# Altium integrated library Linear Technology Power Management Hot Swap Controllers.IntLib: 992 symbols (part 25 of 93)
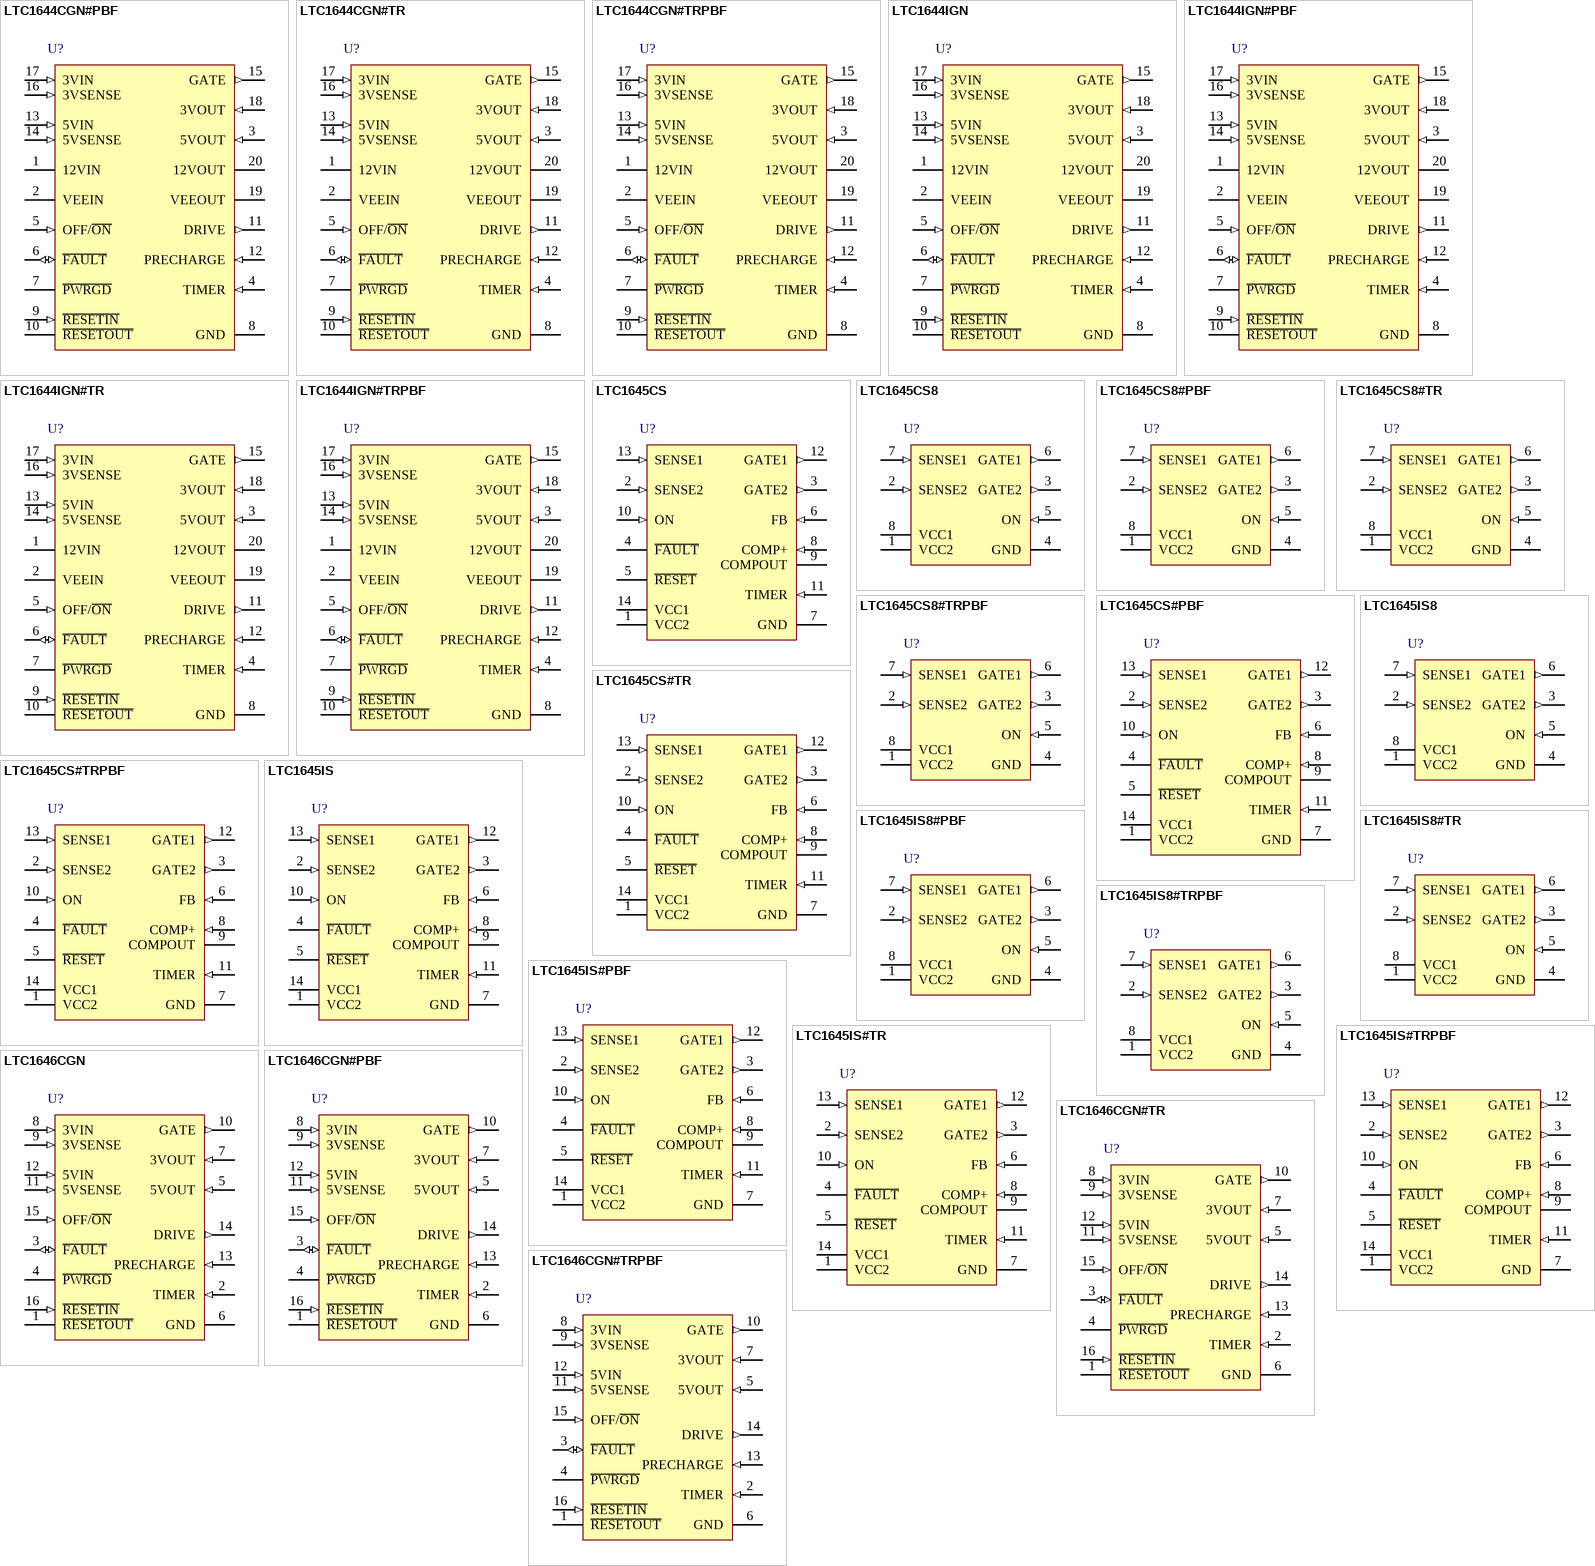
[diagram p61: symbols LTC1644CGN#PBF to LTC1646CGN#TRPBF]

## LTC1644CGN#TR
designator U?
CompactPCI Bus Hot Swap Controller, 3.3 V, 5 V, +/-12 V Vin, 20-pin SOP (GN-20), 0 to 70 degC, Tape and Reel; Manufacturer: Linear Technology; PartNumber: LTC1644CGN#TR; Active Limiting: yes; Circuit Breaker Accuracy(%): 27; Circuit Breaker Threshold: 55 mV; Circuit Breakers(#): 4; Extended Temp: C, I; Fast Comparator: no; In-Rush Current: Active; PackageVersion: Rev. B, 03/2012; PackageReference: GN-20; PackageDescription: 20-Pin Plastic SSOP, Body 8.649 x 3.899 mm, Pitch 0.635 mm; Supplier 1: Digi-Key; Supplier Part Number 1: LTC1644CGNTR-ND; Fault: yes; Foldback: yes; Packing: Tape and Reel; Power Good: yes; Reset: no; RoHS: FALSE; Vin Range: 3.3 V, 5 V, +/-12 V; Mounting Technology: Surface Mount; ComponentLink1Description: Manufacturer URL; ComponentLink1URL: http://www.linear.com/; ComponentLink2Description: Datasheet; ComponentLink2URL: http://cds.linear.com/docs/en/datasheet/1644f.pdf; ComponentLink3Description: Package Specification; ComponentLink3URL: http://cds.linear.com/docs/en/packaging/05081641_B_GN20.pdf
footprint LT-GN-20_N (SOP, 20-Leads, Body 8.7x4mm, Pitch 0.635mm, IPC Medium Density)
footprint LT-GN-20_L (SOP, 20-Leads, Body 8.7x4mm, Pitch 0.635mm, IPC High Density)
footprint LT-GN-20_M (SOP, 20-Leads, Body 8.7x4mm, Pitch 0.635mm, IPC Low Density)
pins: 1 12VIN (power) "12V Supply Input. A 0.5W switch is connected between 12VIN and 12VOUT with a foldback current limit. An undervoltage lockout circuit prevents the switches from turning on while the 12VIN pin voltage is less than 8.3V. 12VIN (See Datasheet)", 2 VEEIN (power) "-12V Supply Input. A 1W switch is connected between VEEIN and VEEOUT with a foldback current limit. If no VEE supply input is available, tie the VEEIN pin to the GND pin in order to disable the VEEOUT power good function.", 3 5VOUT (in) "5V Output Sense. The P\W\R\G\D\ pin will not pull low until the 5VOUT pin voltage exceeds 4.62V. If no 5V input supply is available, tie the 5VOUT pin to the 3VOUT pin in order to disable the 5VOUT power good function.", 4 TIMER (in) "Current Fault Inhibit Timing Input. Connect a capacitor from TIMER to GND. With the chip turned off (OFF/ON = HIGH), the TIMER pin is internally held at GND. When the chip is turned on, a 21mA pull-up current source is (See Datasheet)", 5 OFF/~{ON} (in) "Digital Input. Connect the CPCI BD_SEL# signal to the OFF/ON pin. When the OFF/O\N\ pin is pulled low, the GATE pin is pulled high by a 65mA current source and the internal 12V and -12V switches are turned on. When the (See Datasheet)", 6 ~{FAULT} (io) "Open-Drain Digital I/O. FAULT is pulled low when a current limit fault is detected. Current limit faults are ignored until the voltage at the TIMER pin is within 1V of 12VIN. Once the TIMER cycle is complete, FAULT will pull (See Datasheet)", 7 ~{PWRGD} (oc) "Open-Drain Digital Power Good Output. Connect the CPCI HEALTHY# signal to the PWRGD pin. PWRGD remains low while V12VOUT >= 11.1V, V3VOUT >= 2.9V, V5VOUT >=  4.62V and VEEOUT =< -10.5V. When any of the supplies falls below (See Datasheet)", 8 GND (power) "Chip Ground.", 9 ~{RESETIN} (in) "Digital Input. Connect the CPCI PCI_RST# signal to the RESETIN pin. Pulling RESETIN low will cause RESETOUT to pull low.", 10 ~{RESETOUT} (oc) "Open-Drain Digital Output. Connect the CPCI LOCAL_PCI_RST# signal to the RESETOUT pin. RESETOUT is the logical combination of RESETIN and PWRGD.", 11 DRIVE (out) "Precharge Base Drive Output. Provides base drive for an external NPN emitter-follower which in turn biases the PRECHARGE node.", 12 PRECHARGE (in) "Precharge Monitor Input. An onchip error amplifier servos the DRIVE pin voltage to keep the precharge node at 1V.", 13 5VIN (in) "5V Supply Sense Input. An undervoltage lockout circuit prevents the switches from turning on when the voltage at the 5VIN pin is less than 2.48V. If no 5V input supply is available, tie the 5VIN to the 3VIN pin.", 14 5VSENSE (in) "5V Current Limit Sense. With a sense resistor placed in the supply path between 5VIN and 5VSENSE, the GATE pin voltage will be adjusted to maintain a constant 51mV across the sense resistor and a constant current through the (See Datasheet)", 15 GATE (out) "High Side Gate Drive for the External 3.3V and 5V N-Channels pass transistors. Requires an external series RC network to compensate the current limit loop and set the minimum ramp-up rate.", 16 3VSENSE (in) "3.3V Current Limit Set. With a sense resistor placed in the supply path between 3VIN and 3VSENSE, the GATE pin voltage will be adjusted to maintain a constant 51mV across the sense resistor and a constant current through the (See Datasheet)", 17 3VIN (in) "3.3V Supply Sense Input. An undervoltage lockout circuit prevents the switches from turning on when the voltage at the 3VIN pin is less than 2.48V. If no 3.3V input supply is available, connect two series diodes between 5VIN (See Datasheet)", 18 3VOUT (in) "Analog Input used to monitor the 3.3V output supply voltage. The PWRGD pin cannot pull low until the 3VOUT pin voltage exceeds 2.9V. If no 3.3V input supply is available, tie the 3VOUT pin to the 5VOUT pin.", 19 VEEOUT (power) "-12V Supply Output. A 1W switch is connected between VEEIN and VEEOUT. VEEOUT must exceed -10.5V before the PWRGD pin pulls low unless the VEE PWRGD function is disabled by grounding the VEEIN pin.", 20 12VOUT (power) "12V Supply Output. A 0.5W switch is connected between 12VIN and 12VOUT. 12VOUT must exceed 11.1V before the PWRGD pin can pull low."

## LTC1644CGN#TRPBF
designator U?
CompactPCI Bus Hot Swap Controller, 3.3 V, 5 V, +/-12 V Vin, 20-pin SOP (GN-20), 0 to 70 degC, Pb-Free, Tape and Reel; Manufacturer: Linear Technology; PartNumber: LTC1644CGN#TRPBF; Active Limiting: yes; Circuit Breaker Accuracy(%): 27; Circuit Breaker Threshold: 55 mV; Circuit Breakers(#): 4; Extended Temp: C, I; Fast Comparator: no; In-Rush Current: Active; PackageVersion: Rev. B, 03/2012; PackageReference: GN-20; PackageDescription: 20-Pin Plastic SSOP, Body 8.649 x 3.899 mm, Pitch 0.635 mm; Supplier 1: Digi-Key; Supplier Part Number 1: LTC1644CGN#TRPBF-ND; Fault: yes; Foldback: yes; Packing: Tape and Reel; Power Good: yes; Reset: no; RoHS: TRUE; Vin Range: 3.3 V, 5 V, +/-12 V; Mounting Technology: Surface Mount; ComponentLink1Description: Manufacturer URL; ComponentLink1URL: http://www.linear.com/; ComponentLink2Description: Datasheet; ComponentLink2URL: http://cds.linear.com/docs/en/datasheet/1644f.pdf; ComponentLink3Description: Package Specification; ComponentLink3URL: http://cds.linear.com/docs/en/packaging/05081641_B_GN20.pdf
footprint LT-GN-20_N (SOP, 20-Leads, Body 8.7x4mm, Pitch 0.635mm, IPC Medium Density)
footprint LT-GN-20_L (SOP, 20-Leads, Body 8.7x4mm, Pitch 0.635mm, IPC High Density)
footprint LT-GN-20_M (SOP, 20-Leads, Body 8.7x4mm, Pitch 0.635mm, IPC Low Density)
pins: 1 12VIN (power) "12V Supply Input. A 0.5W switch is connected between 12VIN and 12VOUT with a foldback current limit. An undervoltage lockout circuit prevents the switches from turning on while the 12VIN pin voltage is less than 8.3V. 12VIN (See Datasheet)", 2 VEEIN (power) "-12V Supply Input. A 1W switch is connected between VEEIN and VEEOUT with a foldback current limit. If no VEE supply input is available, tie the VEEIN pin to the GND pin in order to disable the VEEOUT power good function.", 3 5VOUT (in) "5V Output Sense. The P\W\R\G\D\ pin will not pull low until the 5VOUT pin voltage exceeds 4.62V. If no 5V input supply is available, tie the 5VOUT pin to the 3VOUT pin in order to disable the 5VOUT power good function.", 4 TIMER (in) "Current Fault Inhibit Timing Input. Connect a capacitor from TIMER to GND. With the chip turned off (OFF/ON = HIGH), the TIMER pin is internally held at GND. When the chip is turned on, a 21mA pull-up current source is (See Datasheet)", 5 OFF/~{ON} (in) "Digital Input. Connect the CPCI BD_SEL# signal to the OFF/ON pin. When the OFF/O\N\ pin is pulled low, the GATE pin is pulled high by a 65mA current source and the internal 12V and -12V switches are turned on. When the (See Datasheet)", 6 ~{FAULT} (io) "Open-Drain Digital I/O. FAULT is pulled low when a current limit fault is detected. Current limit faults are ignored until the voltage at the TIMER pin is within 1V of 12VIN. Once the TIMER cycle is complete, FAULT will pull (See Datasheet)", 7 ~{PWRGD} (oc) "Open-Drain Digital Power Good Output. Connect the CPCI HEALTHY# signal to the PWRGD pin. PWRGD remains low while V12VOUT >= 11.1V, V3VOUT >= 2.9V, V5VOUT >=  4.62V and VEEOUT =< -10.5V. When any of the supplies falls below (See Datasheet)", 8 GND (power) "Chip Ground.", 9 ~{RESETIN} (in) "Digital Input. Connect the CPCI PCI_RST# signal to the RESETIN pin. Pulling RESETIN low will cause RESETOUT to pull low.", 10 ~{RESETOUT} (oc) "Open-Drain Digital Output. Connect the CPCI LOCAL_PCI_RST# signal to the RESETOUT pin. RESETOUT is the logical combination of RESETIN and PWRGD.", 11 DRIVE (out) "Precharge Base Drive Output. Provides base drive for an external NPN emitter-follower which in turn biases the PRECHARGE node.", 12 PRECHARGE (in) "Precharge Monitor Input. An onchip error amplifier servos the DRIVE pin voltage to keep the precharge node at 1V.", 13 5VIN (in) "5V Supply Sense Input. An undervoltage lockout circuit prevents the switches from turning on when the voltage at the 5VIN pin is less than 2.48V. If no 5V input supply is available, tie the 5VIN to the 3VIN pin.", 14 5VSENSE (in) "5V Current Limit Sense. With a sense resistor placed in the supply path between 5VIN and 5VSENSE, the GATE pin voltage will be adjusted to maintain a constant 51mV across the sense resistor and a constant current through the (See Datasheet)", 15 GATE (out) "High Side Gate Drive for the External 3.3V and 5V N-Channels pass transistors. Requires an external series RC network to compensate the current limit loop and set the minimum ramp-up rate.", 16 3VSENSE (in) "3.3V Current Limit Set. With a sense resistor placed in the supply path between 3VIN and 3VSENSE, the GATE pin voltage will be adjusted to maintain a constant 51mV across the sense resistor and a constant current through the (See Datasheet)", 17 3VIN (in) "3.3V Supply Sense Input. An undervoltage lockout circuit prevents the switches from turning on when the voltage at the 3VIN pin is less than 2.48V. If no 3.3V input supply is available, connect two series diodes between 5VIN (See Datasheet)", 18 3VOUT (in) "Analog Input used to monitor the 3.3V output supply voltage. The PWRGD pin cannot pull low until the 3VOUT pin voltage exceeds 2.9V. If no 3.3V input supply is available, tie the 3VOUT pin to the 5VOUT pin.", 19 VEEOUT (power) "-12V Supply Output. A 1W switch is connected between VEEIN and VEEOUT. VEEOUT must exceed -10.5V before the PWRGD pin pulls low unless the VEE PWRGD function is disabled by grounding the VEEIN pin.", 20 12VOUT (power) "12V Supply Output. A 0.5W switch is connected between 12VIN and 12VOUT. 12VOUT must exceed 11.1V before the PWRGD pin can pull low."

## LTC1644IGN
designator U?
CompactPCI Bus Hot Swap Controller, 3.3 V, 5 V, +/-12 V Vin, 20-pin SOP (GN-20), -40 to 85 degC; Manufacturer: Linear Technology; PartNumber: LTC1644IGN; Active Limiting: yes; Circuit Breaker Accuracy(%): 27; Circuit Breaker Threshold: 55 mV; Circuit Breakers(#): 4; Extended Temp: C, I; Fast Comparator: no; In-Rush Current: Active; PackageVersion: Rev. B, 03/2012; PackageReference: GN-20; PackageDescription: 20-Pin Plastic SSOP, Body 8.649 x 3.899 mm, Pitch 0.635 mm; Supplier 1: Digi-Key; Supplier Part Number 1: LTC1644IGN-ND; Fault: yes; Foldback: yes; Power Good: yes; Reset: no; RoHS: FALSE; Vin Range: 3.3 V, 5 V, +/-12 V; Mounting Technology: Surface Mount; ComponentLink1Description: Manufacturer URL; ComponentLink1URL: http://www.linear.com/; ComponentLink2Description: Datasheet; ComponentLink2URL: http://cds.linear.com/docs/en/datasheet/1644f.pdf; ComponentLink3Description: Package Specification; ComponentLink3URL: http://cds.linear.com/docs/en/packaging/05081641_B_GN20.pdf
footprint LT-GN-20_N (SOP, 20-Leads, Body 8.7x4mm, Pitch 0.635mm, IPC Medium Density)
footprint LT-GN-20_L (SOP, 20-Leads, Body 8.7x4mm, Pitch 0.635mm, IPC High Density)
footprint LT-GN-20_M (SOP, 20-Leads, Body 8.7x4mm, Pitch 0.635mm, IPC Low Density)
pins: 1 12VIN (power) "12V Supply Input. A 0.5W switch is connected between 12VIN and 12VOUT with a foldback current limit. An undervoltage lockout circuit prevents the switches from turning on while the 12VIN pin voltage is less than 8.3V. 12VIN (See Datasheet)", 2 VEEIN (power) "-12V Supply Input. A 1W switch is connected between VEEIN and VEEOUT with a foldback current limit. If no VEE supply input is available, tie the VEEIN pin to the GND pin in order to disable the VEEOUT power good function.", 3 5VOUT (in) "5V Output Sense. The P\W\R\G\D\ pin will not pull low until the 5VOUT pin voltage exceeds 4.62V. If no 5V input supply is available, tie the 5VOUT pin to the 3VOUT pin in order to disable the 5VOUT power good function.", 4 TIMER (in) "Current Fault Inhibit Timing Input. Connect a capacitor from TIMER to GND. With the chip turned off (OFF/ON = HIGH), the TIMER pin is internally held at GND. When the chip is turned on, a 21mA pull-up current source is (See Datasheet)", 5 OFF/~{ON} (in) "Digital Input. Connect the CPCI BD_SEL# signal to the OFF/ON pin. When the OFF/O\N\ pin is pulled low, the GATE pin is pulled high by a 65mA current source and the internal 12V and -12V switches are turned on. When the (See Datasheet)", 6 ~{FAULT} (io) "Open-Drain Digital I/O. FAULT is pulled low when a current limit fault is detected. Current limit faults are ignored until the voltage at the TIMER pin is within 1V of 12VIN. Once the TIMER cycle is complete, FAULT will pull (See Datasheet)", 7 ~{PWRGD} (oc) "Open-Drain Digital Power Good Output. Connect the CPCI HEALTHY# signal to the PWRGD pin. PWRGD remains low while V12VOUT >= 11.1V, V3VOUT >= 2.9V, V5VOUT >=  4.62V and VEEOUT =< -10.5V. When any of the supplies falls below (See Datasheet)", 8 GND (power) "Chip Ground.", 9 ~{RESETIN} (in) "Digital Input. Connect the CPCI PCI_RST# signal to the RESETIN pin. Pulling RESETIN low will cause RESETOUT to pull low.", 10 ~{RESETOUT} (oc) "Open-Drain Digital Output. Connect the CPCI LOCAL_PCI_RST# signal to the RESETOUT pin. RESETOUT is the logical combination of RESETIN and PWRGD.", 11 DRIVE (out) "Precharge Base Drive Output. Provides base drive for an external NPN emitter-follower which in turn biases the PRECHARGE node.", 12 PRECHARGE (in) "Precharge Monitor Input. An onchip error amplifier servos the DRIVE pin voltage to keep the precharge node at 1V.", 13 5VIN (in) "5V Supply Sense Input. An undervoltage lockout circuit prevents the switches from turning on when the voltage at the 5VIN pin is less than 2.48V. If no 5V input supply is available, tie the 5VIN to the 3VIN pin.", 14 5VSENSE (in) "5V Current Limit Sense. With a sense resistor placed in the supply path between 5VIN and 5VSENSE, the GATE pin voltage will be adjusted to maintain a constant 51mV across the sense resistor and a constant current through the (See Datasheet)", 15 GATE (out) "High Side Gate Drive for the External 3.3V and 5V N-Channels pass transistors. Requires an external series RC network to compensate the current limit loop and set the minimum ramp-up rate.", 16 3VSENSE (in) "3.3V Current Limit Set. With a sense resistor placed in the supply path between 3VIN and 3VSENSE, the GATE pin voltage will be adjusted to maintain a constant 51mV across the sense resistor and a constant current through the (See Datasheet)", 17 3VIN (in) "3.3V Supply Sense Input. An undervoltage lockout circuit prevents the switches from turning on when the voltage at the 3VIN pin is less than 2.48V. If no 3.3V input supply is available, connect two series diodes between 5VIN (See Datasheet)", 18 3VOUT (in) "Analog Input used to monitor the 3.3V output supply voltage. The PWRGD pin cannot pull low until the 3VOUT pin voltage exceeds 2.9V. If no 3.3V input supply is available, tie the 3VOUT pin to the 5VOUT pin.", 19 VEEOUT (power) "-12V Supply Output. A 1W switch is connected between VEEIN and VEEOUT. VEEOUT must exceed -10.5V before the PWRGD pin pulls low unless the VEE PWRGD function is disabled by grounding the VEEIN pin.", 20 12VOUT (power) "12V Supply Output. A 0.5W switch is connected between 12VIN and 12VOUT. 12VOUT must exceed 11.1V before the PWRGD pin can pull low."

## LTC1644IGN#PBF
designator U?
CompactPCI Bus Hot Swap Controller, 3.3 V, 5 V, +/-12 V Vin, 20-pin SOP (GN-20), -40 to 85 degC, Pb-Free; Manufacturer: Linear Technology; PartNumber: LTC1644IGN#PBF; Active Limiting: yes; Circuit Breaker Accuracy(%): 27; Circuit Breaker Threshold: 55 mV; Circuit Breakers(#): 4; Extended Temp: C, I; Fast Comparator: no; In-Rush Current: Active; PackageVersion: Rev. B, 03/2012; PackageReference: GN-20; PackageDescription: 20-Pin Plastic SSOP, Body 8.649 x 3.899 mm, Pitch 0.635 mm; Supplier 1: Digi-Key; Supplier Part Number 1: LTC1644IGN#PBF-ND; Fault: yes; Foldback: yes; Power Good: yes; Reset: no; RoHS: TRUE; Vin Range: 3.3 V, 5 V, +/-12 V; Mounting Technology: Surface Mount; ComponentLink1Description: Manufacturer URL; ComponentLink1URL: http://www.linear.com/; ComponentLink2Description: Datasheet; ComponentLink2URL: http://cds.linear.com/docs/en/datasheet/1644f.pdf; ComponentLink3Description: Package Specification; ComponentLink3URL: http://cds.linear.com/docs/en/packaging/05081641_B_GN20.pdf
footprint LT-GN-20_N (SOP, 20-Leads, Body 8.7x4mm, Pitch 0.635mm, IPC Medium Density)
footprint LT-GN-20_L (SOP, 20-Leads, Body 8.7x4mm, Pitch 0.635mm, IPC High Density)
footprint LT-GN-20_M (SOP, 20-Leads, Body 8.7x4mm, Pitch 0.635mm, IPC Low Density)
pins: 1 12VIN (power) "12V Supply Input. A 0.5W switch is connected between 12VIN and 12VOUT with a foldback current limit. An undervoltage lockout circuit prevents the switches from turning on while the 12VIN pin voltage is less than 8.3V. 12VIN (See Datasheet)", 2 VEEIN (power) "-12V Supply Input. A 1W switch is connected between VEEIN and VEEOUT with a foldback current limit. If no VEE supply input is available, tie the VEEIN pin to the GND pin in order to disable the VEEOUT power good function.", 3 5VOUT (in) "5V Output Sense. The P\W\R\G\D\ pin will not pull low until the 5VOUT pin voltage exceeds 4.62V. If no 5V input supply is available, tie the 5VOUT pin to the 3VOUT pin in order to disable the 5VOUT power good function.", 4 TIMER (in) "Current Fault Inhibit Timing Input. Connect a capacitor from TIMER to GND. With the chip turned off (OFF/ON = HIGH), the TIMER pin is internally held at GND. When the chip is turned on, a 21mA pull-up current source is (See Datasheet)", 5 OFF/~{ON} (in) "Digital Input. Connect the CPCI BD_SEL# signal to the OFF/ON pin. When the OFF/O\N\ pin is pulled low, the GATE pin is pulled high by a 65mA current source and the internal 12V and -12V switches are turned on. When the (See Datasheet)", 6 ~{FAULT} (io) "Open-Drain Digital I/O. FAULT is pulled low when a current limit fault is detected. Current limit faults are ignored until the voltage at the TIMER pin is within 1V of 12VIN. Once the TIMER cycle is complete, FAULT will pull (See Datasheet)", 7 ~{PWRGD} (oc) "Open-Drain Digital Power Good Output. Connect the CPCI HEALTHY# signal to the PWRGD pin. PWRGD remains low while V12VOUT >= 11.1V, V3VOUT >= 2.9V, V5VOUT >=  4.62V and VEEOUT =< -10.5V. When any of the supplies falls below (See Datasheet)", 8 GND (power) "Chip Ground.", 9 ~{RESETIN} (in) "Digital Input. Connect the CPCI PCI_RST# signal to the RESETIN pin. Pulling RESETIN low will cause RESETOUT to pull low.", 10 ~{RESETOUT} (oc) "Open-Drain Digital Output. Connect the CPCI LOCAL_PCI_RST# signal to the RESETOUT pin. RESETOUT is the logical combination of RESETIN and PWRGD.", 11 DRIVE (out) "Precharge Base Drive Output. Provides base drive for an external NPN emitter-follower which in turn biases the PRECHARGE node.", 12 PRECHARGE (in) "Precharge Monitor Input. An onchip error amplifier servos the DRIVE pin voltage to keep the precharge node at 1V.", 13 5VIN (in) "5V Supply Sense Input. An undervoltage lockout circuit prevents the switches from turning on when the voltage at the 5VIN pin is less than 2.48V. If no 5V input supply is available, tie the 5VIN to the 3VIN pin.", 14 5VSENSE (in) "5V Current Limit Sense. With a sense resistor placed in the supply path between 5VIN and 5VSENSE, the GATE pin voltage will be adjusted to maintain a constant 51mV across the sense resistor and a constant current through the (See Datasheet)", 15 GATE (out) "High Side Gate Drive for the External 3.3V and 5V N-Channels pass transistors. Requires an external series RC network to compensate the current limit loop and set the minimum ramp-up rate.", 16 3VSENSE (in) "3.3V Current Limit Set. With a sense resistor placed in the supply path between 3VIN and 3VSENSE, the GATE pin voltage will be adjusted to maintain a constant 51mV across the sense resistor and a constant current through the (See Datasheet)", 17 3VIN (in) "3.3V Supply Sense Input. An undervoltage lockout circuit prevents the switches from turning on when the voltage at the 3VIN pin is less than 2.48V. If no 3.3V input supply is available, connect two series diodes between 5VIN (See Datasheet)", 18 3VOUT (in) "Analog Input used to monitor the 3.3V output supply voltage. The PWRGD pin cannot pull low until the 3VOUT pin voltage exceeds 2.9V. If no 3.3V input supply is available, tie the 3VOUT pin to the 5VOUT pin.", 19 VEEOUT (power) "-12V Supply Output. A 1W switch is connected between VEEIN and VEEOUT. VEEOUT must exceed -10.5V before the PWRGD pin pulls low unless the VEE PWRGD function is disabled by grounding the VEEIN pin.", 20 12VOUT (power) "12V Supply Output. A 0.5W switch is connected between 12VIN and 12VOUT. 12VOUT must exceed 11.1V before the PWRGD pin can pull low."

## LTC1644IGN#TR
designator U?
CompactPCI Bus Hot Swap Controller, 3.3 V, 5 V, +/-12 V Vin, 20-pin SOP (GN-20), -40 to 85 degC, Tape and Reel; Manufacturer: Linear Technology; PartNumber: LTC1644IGN#TR; Active Limiting: yes; Circuit Breaker Accuracy(%): 27; Circuit Breaker Threshold: 55 mV; Circuit Breakers(#): 4; Extended Temp: C, I; Fast Comparator: no; In-Rush Current: Active; PackageVersion: Rev. B, 03/2012; PackageReference: GN-20; PackageDescription: 20-Pin Plastic SSOP, Body 8.649 x 3.899 mm, Pitch 0.635 mm; Supplier 1: Digi-Key; Supplier Part Number 1: LTC1644IGNTR-ND; Fault: yes; Foldback: yes; Packing: Tape and Reel; Power Good: yes; Reset: no; RoHS: FALSE; Vin Range: 3.3 V, 5 V, +/-12 V; Mounting Technology: Surface Mount; ComponentLink1Description: Manufacturer URL; ComponentLink1URL: http://www.linear.com/; ComponentLink2Description: Datasheet; ComponentLink2URL: http://cds.linear.com/docs/en/datasheet/1644f.pdf; ComponentLink3Description: Package Specification; ComponentLink3URL: http://cds.linear.com/docs/en/packaging/05081641_B_GN20.pdf
footprint LT-GN-20_N (SOP, 20-Leads, Body 8.7x4mm, Pitch 0.635mm, IPC Medium Density)
footprint LT-GN-20_L (SOP, 20-Leads, Body 8.7x4mm, Pitch 0.635mm, IPC High Density)
footprint LT-GN-20_M (SOP, 20-Leads, Body 8.7x4mm, Pitch 0.635mm, IPC Low Density)
pins: 1 12VIN (power) "12V Supply Input. A 0.5W switch is connected between 12VIN and 12VOUT with a foldback current limit. An undervoltage lockout circuit prevents the switches from turning on while the 12VIN pin voltage is less than 8.3V. 12VIN (See Datasheet)", 2 VEEIN (power) "-12V Supply Input. A 1W switch is connected between VEEIN and VEEOUT with a foldback current limit. If no VEE supply input is available, tie the VEEIN pin to the GND pin in order to disable the VEEOUT power good function.", 3 5VOUT (in) "5V Output Sense. The P\W\R\G\D\ pin will not pull low until the 5VOUT pin voltage exceeds 4.62V. If no 5V input supply is available, tie the 5VOUT pin to the 3VOUT pin in order to disable the 5VOUT power good function.", 4 TIMER (in) "Current Fault Inhibit Timing Input. Connect a capacitor from TIMER to GND. With the chip turned off (OFF/ON = HIGH), the TIMER pin is internally held at GND. When the chip is turned on, a 21mA pull-up current source is (See Datasheet)", 5 OFF/~{ON} (in) "Digital Input. Connect the CPCI BD_SEL# signal to the OFF/ON pin. When the OFF/O\N\ pin is pulled low, the GATE pin is pulled high by a 65mA current source and the internal 12V and -12V switches are turned on. When the (See Datasheet)", 6 ~{FAULT} (io) "Open-Drain Digital I/O. FAULT is pulled low when a current limit fault is detected. Current limit faults are ignored until the voltage at the TIMER pin is within 1V of 12VIN. Once the TIMER cycle is complete, FAULT will pull (See Datasheet)", 7 ~{PWRGD} (oc) "Open-Drain Digital Power Good Output. Connect the CPCI HEALTHY# signal to the PWRGD pin. PWRGD remains low while V12VOUT >= 11.1V, V3VOUT >= 2.9V, V5VOUT >=  4.62V and VEEOUT =< -10.5V. When any of the supplies falls below (See Datasheet)", 8 GND (power) "Chip Ground.", 9 ~{RESETIN} (in) "Digital Input. Connect the CPCI PCI_RST# signal to the RESETIN pin. Pulling RESETIN low will cause RESETOUT to pull low.", 10 ~{RESETOUT} (oc) "Open-Drain Digital Output. Connect the CPCI LOCAL_PCI_RST# signal to the RESETOUT pin. RESETOUT is the logical combination of RESETIN and PWRGD.", 11 DRIVE (out) "Precharge Base Drive Output. Provides base drive for an external NPN emitter-follower which in turn biases the PRECHARGE node.", 12 PRECHARGE (in) "Precharge Monitor Input. An onchip error amplifier servos the DRIVE pin voltage to keep the precharge node at 1V.", 13 5VIN (in) "5V Supply Sense Input. An undervoltage lockout circuit prevents the switches from turning on when the voltage at the 5VIN pin is less than 2.48V. If no 5V input supply is available, tie the 5VIN to the 3VIN pin.", 14 5VSENSE (in) "5V Current Limit Sense. With a sense resistor placed in the supply path between 5VIN and 5VSENSE, the GATE pin voltage will be adjusted to maintain a constant 51mV across the sense resistor and a constant current through the (See Datasheet)", 15 GATE (out) "High Side Gate Drive for the External 3.3V and 5V N-Channels pass transistors. Requires an external series RC network to compensate the current limit loop and set the minimum ramp-up rate.", 16 3VSENSE (in) "3.3V Current Limit Set. With a sense resistor placed in the supply path between 3VIN and 3VSENSE, the GATE pin voltage will be adjusted to maintain a constant 51mV across the sense resistor and a constant current through the (See Datasheet)", 17 3VIN (in) "3.3V Supply Sense Input. An undervoltage lockout circuit prevents the switches from turning on when the voltage at the 3VIN pin is less than 2.48V. If no 3.3V input supply is available, connect two series diodes between 5VIN (See Datasheet)", 18 3VOUT (in) "Analog Input used to monitor the 3.3V output supply voltage. The PWRGD pin cannot pull low until the 3VOUT pin voltage exceeds 2.9V. If no 3.3V input supply is available, tie the 3VOUT pin to the 5VOUT pin.", 19 VEEOUT (power) "-12V Supply Output. A 1W switch is connected between VEEIN and VEEOUT. VEEOUT must exceed -10.5V before the PWRGD pin pulls low unless the VEE PWRGD function is disabled by grounding the VEEIN pin.", 20 12VOUT (power) "12V Supply Output. A 0.5W switch is connected between 12VIN and 12VOUT. 12VOUT must exceed 11.1V before the PWRGD pin can pull low."

## LTC1644IGN#TRPBF
designator U?
CompactPCI Bus Hot Swap Controller, 3.3 V, 5 V, +/-12 V Vin, 20-pin SOP (GN-20), -40 to 85 degC, Pb-Free, Tape and Reel; Manufacturer: Linear Technology; PartNumber: LTC1644IGN#TRPBF; Active Limiting: yes; Circuit Breaker Accuracy(%): 27; Circuit Breaker Threshold: 55 mV; Circuit Breakers(#): 4; Extended Temp: C, I; Fast Comparator: no; In-Rush Current: Active; PackageVersion: Rev. B, 03/2012; PackageReference: GN-20; PackageDescription: 20-Pin Plastic SSOP, Body 8.649 x 3.899 mm, Pitch 0.635 mm; Supplier 1: Digi-Key; Supplier Part Number 1: LTC1644IGN#TRPBF-ND; Fault: yes; Foldback: yes; Packing: Tape and Reel; Power Good: yes; Reset: no; RoHS: TRUE; Vin Range: 3.3 V, 5 V, +/-12 V; Mounting Technology: Surface Mount; ComponentLink1Description: Manufacturer URL; ComponentLink1URL: http://www.linear.com/; ComponentLink2Description: Datasheet; ComponentLink2URL: http://cds.linear.com/docs/en/datasheet/1644f.pdf; ComponentLink3Description: Package Specification; ComponentLink3URL: http://cds.linear.com/docs/en/packaging/05081641_B_GN20.pdf
footprint LT-GN-20_N (SOP, 20-Leads, Body 8.7x4mm, Pitch 0.635mm, IPC Medium Density)
footprint LT-GN-20_L (SOP, 20-Leads, Body 8.7x4mm, Pitch 0.635mm, IPC High Density)
footprint LT-GN-20_M (SOP, 20-Leads, Body 8.7x4mm, Pitch 0.635mm, IPC Low Density)
pins: 1 12VIN (power) "12V Supply Input. A 0.5W switch is connected between 12VIN and 12VOUT with a foldback current limit. An undervoltage lockout circuit prevents the switches from turning on while the 12VIN pin voltage is less than 8.3V. 12VIN (See Datasheet)", 2 VEEIN (power) "-12V Supply Input. A 1W switch is connected between VEEIN and VEEOUT with a foldback current limit. If no VEE supply input is available, tie the VEEIN pin to the GND pin in order to disable the VEEOUT power good function.", 3 5VOUT (in) "5V Output Sense. The P\W\R\G\D\ pin will not pull low until the 5VOUT pin voltage exceeds 4.62V. If no 5V input supply is available, tie the 5VOUT pin to the 3VOUT pin in order to disable the 5VOUT power good function.", 4 TIMER (in) "Current Fault Inhibit Timing Input. Connect a capacitor from TIMER to GND. With the chip turned off (OFF/ON = HIGH), the TIMER pin is internally held at GND. When the chip is turned on, a 21mA pull-up current source is (See Datasheet)", 5 OFF/~{ON} (in) "Digital Input. Connect the CPCI BD_SEL# signal to the OFF/ON pin. When the OFF/O\N\ pin is pulled low, the GATE pin is pulled high by a 65mA current source and the internal 12V and -12V switches are turned on. When the (See Datasheet)", 6 ~{FAULT} (io) "Open-Drain Digital I/O. FAULT is pulled low when a current limit fault is detected. Current limit faults are ignored until the voltage at the TIMER pin is within 1V of 12VIN. Once the TIMER cycle is complete, FAULT will pull (See Datasheet)", 7 ~{PWRGD} (oc) "Open-Drain Digital Power Good Output. Connect the CPCI HEALTHY# signal to the PWRGD pin. PWRGD remains low while V12VOUT >= 11.1V, V3VOUT >= 2.9V, V5VOUT >=  4.62V and VEEOUT =< -10.5V. When any of the supplies falls below (See Datasheet)", 8 GND (power) "Chip Ground.", 9 ~{RESETIN} (in) "Digital Input. Connect the CPCI PCI_RST# signal to the RESETIN pin. Pulling RESETIN low will cause RESETOUT to pull low.", 10 ~{RESETOUT} (oc) "Open-Drain Digital Output. Connect the CPCI LOCAL_PCI_RST# signal to the RESETOUT pin. RESETOUT is the logical combination of RESETIN and PWRGD.", 11 DRIVE (out) "Precharge Base Drive Output. Provides base drive for an external NPN emitter-follower which in turn biases the PRECHARGE node.", 12 PRECHARGE (in) "Precharge Monitor Input. An onchip error amplifier servos the DRIVE pin voltage to keep the precharge node at 1V.", 13 5VIN (in) "5V Supply Sense Input. An undervoltage lockout circuit prevents the switches from turning on when the voltage at the 5VIN pin is less than 2.48V. If no 5V input supply is available, tie the 5VIN to the 3VIN pin.", 14 5VSENSE (in) "5V Current Limit Sense. With a sense resistor placed in the supply path between 5VIN and 5VSENSE, the GATE pin voltage will be adjusted to maintain a constant 51mV across the sense resistor and a constant current through the (See Datasheet)", 15 GATE (out) "High Side Gate Drive for the External 3.3V and 5V N-Channels pass transistors. Requires an external series RC network to compensate the current limit loop and set the minimum ramp-up rate.", 16 3VSENSE (in) "3.3V Current Limit Set. With a sense resistor placed in the supply path between 3VIN and 3VSENSE, the GATE pin voltage will be adjusted to maintain a constant 51mV across the sense resistor and a constant current through the (See Datasheet)", 17 3VIN (in) "3.3V Supply Sense Input. An undervoltage lockout circuit prevents the switches from turning on when the voltage at the 3VIN pin is less than 2.48V. If no 3.3V input supply is available, connect two series diodes between 5VIN (See Datasheet)", 18 3VOUT (in) "Analog Input used to monitor the 3.3V output supply voltage. The PWRGD pin cannot pull low until the 3VOUT pin voltage exceeds 2.9V. If no 3.3V input supply is available, tie the 3VOUT pin to the 5VOUT pin.", 19 VEEOUT (power) "-12V Supply Output. A 1W switch is connected between VEEIN and VEEOUT. VEEOUT must exceed -10.5V before the PWRGD pin pulls low unless the VEE PWRGD function is disabled by grounding the VEEIN pin.", 20 12VOUT (power) "12V Supply Output. A 0.5W switch is connected between 12VIN and 12VOUT. 12VOUT must exceed 11.1V before the PWRGD pin can pull low."

## LTC1645CS
designator U?
Dual-Channel Hot Swap Controller / Power Sequencer, 1.18 to 13.2 V, 2.3 to 13.2 V Vin, 14-pin SOIC (S-14), 0 to 70 degC; Manufacturer: Linear Technology; PartNumber: LTC1645CS; Active Limiting: no; Circuit Breaker Accuracy(%): 12; Circuit Breaker Threshold: 50 mV; Circuit Breakers(#): 2; Extended Temp: C, I; In-Rush Current: Ramp; Reset: yes; DatasheetVersion: Rev. A; PackageVersion: Rev. G, 03/2012; PackageReference: S-14; PackageDescription: 14-Pin Plastic Small Outline, Body 8.65 x 3.9 mm, Pitch 1.27 mm; Supplier 1: Digi-Key; Supplier Part Number 1: LTC1645CS-ND; Fast Comparator: no; Fault: no; Foldback: no; Power Good: no; RoHS: FALSE; Vin Range: 1.18 to 13.2 V, 2.3 to 13.2 V; Mounting Technology: Surface Mount; ComponentLink1Description: Manufacturer URL; ComponentLink1URL: http://www.linear.com/; ComponentLink2Description: Datasheet; ComponentLink2URL: http://cds.linear.com/docs/en/datasheet/1645fa.pdf; ComponentLink3Description: Package Specification; ComponentLink3URL: http://cds.linear.com/docs/en/packaging/05081610_G_S14.pdf
footprint LT-S-14_N (SOIC, 14-Leads, Body 8.7x4mm, Pitch 1.27mm, IPC Medium Density)
footprint LT-S-14_L (SOIC, 14-Leads, Body 8.7x4mm, Pitch 1.27mm, IPC High Density)
footprint LT-S-14_M (SOIC, 14-Leads, Body 8.7x4mm, Pitch 1.27mm, IPC Low Density)
pins: 1 VCC2 (power) "Positive Supply Input. VCC2 can range from 1.2V to 12V for normal operation. ICC2 is typically 0.2mA. An undervoltage lockout circuit disables the LTC1645 whenever the voltage at VCC2 is less than 1.12V.", 2 SENSE2 (in) "VCC2 Circuit Breaker Set Pin. With a sense resistor placed in the supply path between VCC2 and SENSE2, the circuit breaker trips when the voltage across the resistor exceeds 50mV for more than 1.5ms. If the circuit breaker (See Datasheet)", 3 GATE2 (out) "Channel 2 High Side Gate Drive. Connect to the gate of an external N-channel MOSFET. An internal charge pump guarantees at least 4.5V of gate drive. The charge pump is powered by the higher of VCC1 and VCC2. When the ON pin (See Datasheet)", 4 ~{FAULT} (oc) "Circuit Breaker Fault. F\A\U\L\T\ is an open-drain output that pulls low when the circuit breaker function trips. The circuit breaker is reset by pulling the ON pin below 0.4V. An external pull-up is required to generate a (See Datasheet)", 5 ~{RESET} (oc) "Open-Drain R\E\S\E\T\ Output. The R\E\S\E\T\ pin is pulled low when the voltage at the FB pin goes below 1.238V or VCC1 is below the undervoltage lockout threshold. The R\E\S\E\T\ pin goes high one timing cycle after the (See Datasheet)", 6 FB (in) "R\E\S\E\T\ Comparator Input. The FB pin is used to monitor the output supply voltage with an external resistive divider. When the voltage on the FB pin is lower than 1.238V, the R\E\S\E\T\ pin is pulled low. A glitch filter (See Datasheet)", 7 GND (power) "Ground. Connect to a ground plane for optimum performance.", 8 COMP+ (in) "Spare Comparator Noninverting Input. When the voltage on COMP+ is lower than 1.238V, COMPOUT pulls low.", 9 COMPOUT (oc) "Open-Drain Spare Comparator Output. COMPOUT pulls low when the voltage on COMP+ is below 1.238V or VCC1 is below the undervoltage lockout threshold. An external pull-up is required to generate a logic high at the COMPOUT pin.", 10 ON (in) "Analog Control Input. If the ON pin voltage is below 0.4V, both GATE1 and GATE2 are immediately pulled to ground. While the voltage is between 0.4V and 0.8V, both GATE1 and GATE2 are each pulled to ground with a 40mA current (See Datasheet)", 11 TIMER (in) "System Timing Pin. The TIMER pin requires an external capacitor to ground to generate a timing delay. The pin is used to set the delay before the R\E\S\E\T\ pin goes high after the output supply voltage is good as sensed by (See Datasheet)", 12 GATE1 (out) "Channel 1 High Side Gate Drive. Connect to the gate of an external N-channel MOSFET. An internal charge pump guarantees at least 4.5V of gate drive. The charge pump is powered by the higher of VCC1 and VCC2. When the ON pin (See Datasheet)", 13 SENSE1 (in) "VCC1 Circuit Breaker Set Pin. With a sense resistor placed in the supply path between VCC1 and SENSE1, the circuit breaker trips when the voltage across the resistor exceeds 50mV for more than 1.5ms. If the circuit breaker (See Datasheet)", 14 VCC1 (power) "Positive Supply Input. VCC1 can range from 2.375V to 12V for normal operation. ICC1 is typically 1mA. An undervoltage lockout circuit disables the chip whenever the voltage at VCC1 is less than 2.23V. All internal logic is (See Datasheet)"

## LTC1645CS8
designator U?
Dual-Channel Hot Swap Controller / Power Sequencer, 1.18 to 13.2 V, 2.3 to 13.2 V Vin, 8-pin SOIC (S8-8), 0 to 70 degC; Manufacturer: Linear Technology; PartNumber: LTC1645CS8; Active Limiting: no; Circuit Breaker Accuracy(%): 12; Circuit Breaker Threshold: 50 mV; Circuit Breakers(#): 2; Extended Temp: C, I; In-Rush Current: Ramp; Reset: yes; DatasheetVersion: Rev. A; PackageVersion: Rev. G, 03/2012; PackageReference: S8-8; PackageDescription: 8-Pin Plastic Small Outline (Narrow .150 Inch), Body 4.9 x 3.9 mm, Pitch 1.27 mm; Supplier 1: Digi-Key; Supplier Part Number 1: LTC1645CS8-ND; Fast Comparator: no; Fault: no; Foldback: no; Power Good: no; RoHS: FALSE; Vin Range: 1.18 to 13.2 V, 2.3 to 13.2 V; Mounting Technology: Surface Mount; ComponentLink1Description: Manufacturer URL; ComponentLink1URL: http://www.linear.com/; ComponentLink2Description: Datasheet; ComponentLink2URL: http://cds.linear.com/docs/en/datasheet/1645fa.pdf; ComponentLink3Description: Package Specification; ComponentLink3URL: http://cds.linear.com/docs/en/packaging/05081610_G_SO8.pdf
footprint LT-S8-8_N (SOIC, 8-Leads, Body 5x4mm, Pitch 1.27mm, IPC Medium Density)
footprint LT-S8-8_L (SOIC, 8-Leads, Body 5x4mm, Pitch 1.27mm, IPC High Density)
footprint LT-S8-8_M (SOIC, 8-Leads, Body 5x4mm, Pitch 1.27mm, IPC Low Density)
pins: 1 VCC2 (power) "Positive Supply Input.", 2 SENSE2 (in) "VCC2 Circuit Breaker Set Pin.", 3 GATE2 (out) "Channel 2 High Side Gate Drive. Connect to the gate of an external N-channel MOSFET.", 4 GND (power) "Ground. Connect to a ground plane for optimum performance.", 5 ON (in) "Analog Control Input.", 6 GATE1 (out) "Channel 1 High Side Gate Drive. Connect to the gate of an external N-channel MOSFET.", 7 SENSE1 (in) "VCC1 Circuit Breaker Set Pin.", 8 VCC1 (power) "Positive Supply Input."

## LTC1645CS8#PBF
designator U?
Dual-Channel Hot Swap Controller / Power Sequencer, 1.18 to 13.2 V, 2.3 to 13.2 V Vin, 8-pin SOIC (S8-8), 0 to 70 degC, Pb-Free; Manufacturer: Linear Technology; PartNumber: LTC1645CS8#PBF; Active Limiting: no; Circuit Breaker Accuracy(%): 12; Circuit Breaker Threshold: 50 mV; Circuit Breakers(#): 2; Extended Temp: C, I; In-Rush Current: Ramp; Reset: yes; DatasheetVersion: Rev. A; PackageVersion: Rev. G, 03/2012; PackageReference: S8-8; PackageDescription: 8-Pin Plastic Small Outline (Narrow .150 Inch), Body 4.9 x 3.9 mm, Pitch 1.27 mm; Supplier 1: Digi-Key; Supplier Part Number 1: LTC1645CS8#PBF-ND; Supplier 2: Farnell; Supplier Part Number 2: 1273897; Fast Comparator: no; Fault: no; Foldback: no; Power Good: no; RoHS: TRUE; Vin Range: 1.18 to 13.2 V, 2.3 to 13.2 V; Mounting Technology: Surface Mount; ComponentLink1Description: Manufacturer URL; ComponentLink1URL: http://www.linear.com/; ComponentLink2Description: Datasheet; ComponentLink2URL: http://cds.linear.com/docs/en/datasheet/1645fa.pdf; ComponentLink3Description: Package Specification; ComponentLink3URL: http://cds.linear.com/docs/en/packaging/05081610_G_SO8.pdf
footprint LT-S8-8_N (SOIC, 8-Leads, Body 5x4mm, Pitch 1.27mm, IPC Medium Density)
footprint LT-S8-8_L (SOIC, 8-Leads, Body 5x4mm, Pitch 1.27mm, IPC High Density)
footprint LT-S8-8_M (SOIC, 8-Leads, Body 5x4mm, Pitch 1.27mm, IPC Low Density)
pins: 1 VCC2 (power) "Positive Supply Input.", 2 SENSE2 (in) "VCC2 Circuit Breaker Set Pin.", 3 GATE2 (out) "Channel 2 High Side Gate Drive. Connect to the gate of an external N-channel MOSFET.", 4 GND (power) "Ground. Connect to a ground plane for optimum performance.", 5 ON (in) "Analog Control Input.", 6 GATE1 (out) "Channel 1 High Side Gate Drive. Connect to the gate of an external N-channel MOSFET.", 7 SENSE1 (in) "VCC1 Circuit Breaker Set Pin.", 8 VCC1 (power) "Positive Supply Input."

## LTC1645CS8#TR
designator U?
Dual-Channel Hot Swap Controller / Power Sequencer, 1.18 to 13.2 V, 2.3 to 13.2 V Vin, 8-pin SOIC (S8-8), 0 to 70 degC, Tape and Reel; Manufacturer: Linear Technology; PartNumber: LTC1645CS8#TR; Active Limiting: no; Circuit Breaker Accuracy(%): 12; Circuit Breaker Threshold: 50 mV; Circuit Breakers(#): 2; Extended Temp: C, I; In-Rush Current: Ramp; Reset: yes; DatasheetVersion: Rev. A; PackageVersion: Rev. G, 03/2012; PackageReference: S8-8; PackageDescription: 8-Pin Plastic Small Outline (Narrow .150 Inch), Body 4.9 x 3.9 mm, Pitch 1.27 mm; Supplier 1: Digi-Key; Supplier Part Number 1: LTC1645CS8#TR-ND; Fast Comparator: no; Fault: no; Foldback: no; Packing: Tape and Reel; Power Good: no; RoHS: FALSE; Vin Range: 1.18 to 13.2 V, 2.3 to 13.2 V; Mounting Technology: Surface Mount; ComponentLink1Description: Manufacturer URL; ComponentLink1URL: http://www.linear.com/; ComponentLink2Description: Datasheet; ComponentLink2URL: http://cds.linear.com/docs/en/datasheet/1645fa.pdf; ComponentLink3Description: Package Specification; ComponentLink3URL: http://cds.linear.com/docs/en/packaging/05081610_G_SO8.pdf
footprint LT-S8-8_N (SOIC, 8-Leads, Body 5x4mm, Pitch 1.27mm, IPC Medium Density)
footprint LT-S8-8_L (SOIC, 8-Leads, Body 5x4mm, Pitch 1.27mm, IPC High Density)
footprint LT-S8-8_M (SOIC, 8-Leads, Body 5x4mm, Pitch 1.27mm, IPC Low Density)
pins: 1 VCC2 (power) "Positive Supply Input.", 2 SENSE2 (in) "VCC2 Circuit Breaker Set Pin.", 3 GATE2 (out) "Channel 2 High Side Gate Drive. Connect to the gate of an external N-channel MOSFET.", 4 GND (power) "Ground. Connect to a ground plane for optimum performance.", 5 ON (in) "Analog Control Input.", 6 GATE1 (out) "Channel 1 High Side Gate Drive. Connect to the gate of an external N-channel MOSFET.", 7 SENSE1 (in) "VCC1 Circuit Breaker Set Pin.", 8 VCC1 (power) "Positive Supply Input."

## LTC1645CS8#TRPBF
designator U?
Dual-Channel Hot Swap Controller / Power Sequencer, 1.18 to 13.2 V, 2.3 to 13.2 V Vin, 8-pin SOIC (S8-8), 0 to 70 degC, Pb-Free, Tape and Reel; Manufacturer: Linear Technology; PartNumber: LTC1645CS8#TRPBF; Active Limiting: no; Circuit Breaker Accuracy(%): 12; Circuit Breaker Threshold: 50 mV; Circuit Breakers(#): 2; Extended Temp: C, I; In-Rush Current: Ramp; Reset: yes; DatasheetVersion: Rev. A; PackageVersion: Rev. G, 03/2012; PackageReference: S8-8; PackageDescription: 8-Pin Plastic Small Outline (Narrow .150 Inch), Body 4.9 x 3.9 mm, Pitch 1.27 mm; Supplier 1: Digi-Key; Supplier Part Number 1: LTC1645CS8#TRPBF-ND; Fast Comparator: no; Fault: no; Foldback: no; Packing: Tape and Reel; Power Good: no; RoHS: TRUE; Vin Range: 1.18 to 13.2 V, 2.3 to 13.2 V; Mounting Technology: Surface Mount; ComponentLink1Description: Manufacturer URL; ComponentLink1URL: http://www.linear.com/; ComponentLink2Description: Datasheet; ComponentLink2URL: http://cds.linear.com/docs/en/datasheet/1645fa.pdf; ComponentLink3Description: Package Specification; ComponentLink3URL: http://cds.linear.com/docs/en/packaging/05081610_G_SO8.pdf
footprint LT-S8-8_N (SOIC, 8-Leads, Body 5x4mm, Pitch 1.27mm, IPC Medium Density)
footprint LT-S8-8_L (SOIC, 8-Leads, Body 5x4mm, Pitch 1.27mm, IPC High Density)
footprint LT-S8-8_M (SOIC, 8-Leads, Body 5x4mm, Pitch 1.27mm, IPC Low Density)
pins: 1 VCC2 (power) "Positive Supply Input.", 2 SENSE2 (in) "VCC2 Circuit Breaker Set Pin.", 3 GATE2 (out) "Channel 2 High Side Gate Drive. Connect to the gate of an external N-channel MOSFET.", 4 GND (power) "Ground. Connect to a ground plane for optimum performance.", 5 ON (in) "Analog Control Input.", 6 GATE1 (out) "Channel 1 High Side Gate Drive. Connect to the gate of an external N-channel MOSFET.", 7 SENSE1 (in) "VCC1 Circuit Breaker Set Pin.", 8 VCC1 (power) "Positive Supply Input."

## LTC1645CS#PBF
designator U?
Dual-Channel Hot Swap Controller / Power Sequencer, 1.18 to 13.2 V, 2.3 to 13.2 V Vin, 14-pin SOIC (S-14), 0 to 70 degC, Pb-Free; Manufacturer: Linear Technology; PartNumber: LTC1645CS#PBF; Active Limiting: no; Circuit Breaker Accuracy(%): 12; Circuit Breaker Threshold: 50 mV; Circuit Breakers(#): 2; Extended Temp: C, I; In-Rush Current: Ramp; Reset: yes; DatasheetVersion: Rev. A; PackageVersion: Rev. G, 03/2012; PackageReference: S-14; PackageDescription: 14-Pin Plastic Small Outline, Body 8.65 x 3.9 mm, Pitch 1.27 mm; Supplier 1: Digi-Key; Supplier Part Number 1: LTC1645CS#PBF-ND; Supplier 2: Farnell; Supplier Part Number 2: 2125350; Supplier 3: Newark; Supplier Part Number 3: 56M2817; Fast Comparator: no; Fault: no; Foldback: no; Power Good: no; RoHS: TRUE; Vin Range: 1.18 to 13.2 V, 2.3 to 13.2 V; Mounting Technology: Surface Mount; ComponentLink1Description: Manufacturer URL; ComponentLink1URL: http://www.linear.com/; ComponentLink2Description: Datasheet; ComponentLink2URL: http://cds.linear.com/docs/en/datasheet/1645fa.pdf; ComponentLink3Description: Package Specification; ComponentLink3URL: http://cds.linear.com/docs/en/packaging/05081610_G_S14.pdf
footprint LT-S-14_N (SOIC, 14-Leads, Body 8.7x4mm, Pitch 1.27mm, IPC Medium Density)
footprint LT-S-14_L (SOIC, 14-Leads, Body 8.7x4mm, Pitch 1.27mm, IPC High Density)
footprint LT-S-14_M (SOIC, 14-Leads, Body 8.7x4mm, Pitch 1.27mm, IPC Low Density)
pins: 1 VCC2 (power) "Positive Supply Input. VCC2 can range from 1.2V to 12V for normal operation. ICC2 is typically 0.2mA. An undervoltage lockout circuit disables the LTC1645 whenever the voltage at VCC2 is less than 1.12V.", 2 SENSE2 (in) "VCC2 Circuit Breaker Set Pin. With a sense resistor placed in the supply path between VCC2 and SENSE2, the circuit breaker trips when the voltage across the resistor exceeds 50mV for more than 1.5ms. If the circuit breaker (See Datasheet)", 3 GATE2 (out) "Channel 2 High Side Gate Drive. Connect to the gate of an external N-channel MOSFET. An internal charge pump guarantees at least 4.5V of gate drive. The charge pump is powered by the higher of VCC1 and VCC2. When the ON pin (See Datasheet)", 4 ~{FAULT} (oc) "Circuit Breaker Fault. F\A\U\L\T\ is an open-drain output that pulls low when the circuit breaker function trips. The circuit breaker is reset by pulling the ON pin below 0.4V. An external pull-up is required to generate a (See Datasheet)", 5 ~{RESET} (oc) "Open-Drain R\E\S\E\T\ Output. The R\E\S\E\T\ pin is pulled low when the voltage at the FB pin goes below 1.238V or VCC1 is below the undervoltage lockout threshold. The R\E\S\E\T\ pin goes high one timing cycle after the (See Datasheet)", 6 FB (in) "R\E\S\E\T\ Comparator Input. The FB pin is used to monitor the output supply voltage with an external resistive divider. When the voltage on the FB pin is lower than 1.238V, the R\E\S\E\T\ pin is pulled low. A glitch filter (See Datasheet)", 7 GND (power) "Ground. Connect to a ground plane for optimum performance.", 8 COMP+ (in) "Spare Comparator Noninverting Input. When the voltage on COMP+ is lower than 1.238V, COMPOUT pulls low.", 9 COMPOUT (oc) "Open-Drain Spare Comparator Output. COMPOUT pulls low when the voltage on COMP+ is below 1.238V or VCC1 is below the undervoltage lockout threshold. An external pull-up is required to generate a logic high at the COMPOUT pin.", 10 ON (in) "Analog Control Input. If the ON pin voltage is below 0.4V, both GATE1 and GATE2 are immediately pulled to ground. While the voltage is between 0.4V and 0.8V, both GATE1 and GATE2 are each pulled to ground with a 40mA current (See Datasheet)", 11 TIMER (in) "System Timing Pin. The TIMER pin requires an external capacitor to ground to generate a timing delay. The pin is used to set the delay before the R\E\S\E\T\ pin goes high after the output supply voltage is good as sensed by (See Datasheet)", 12 GATE1 (out) "Channel 1 High Side Gate Drive. Connect to the gate of an external N-channel MOSFET. An internal charge pump guarantees at least 4.5V of gate drive. The charge pump is powered by the higher of VCC1 and VCC2. When the ON pin (See Datasheet)", 13 SENSE1 (in) "VCC1 Circuit Breaker Set Pin. With a sense resistor placed in the supply path between VCC1 and SENSE1, the circuit breaker trips when the voltage across the resistor exceeds 50mV for more than 1.5ms. If the circuit breaker (See Datasheet)", 14 VCC1 (power) "Positive Supply Input. VCC1 can range from 2.375V to 12V for normal operation. ICC1 is typically 1mA. An undervoltage lockout circuit disables the chip whenever the voltage at VCC1 is less than 2.23V. All internal logic is (See Datasheet)"